# Altium footprint library CONN_HDR_1.00MM_ST.PcbLib: 1 footprints
Each footprint in its own frame and in the unit in brackets; x right, y up, seen from the top. Pads: shape width x height; smd on the part's side, far side on the other; paste and mask are expansions set on the pad; w line width, h text height; cw(c..) or ccw(c..) is an arc to the next point about the centre after c.
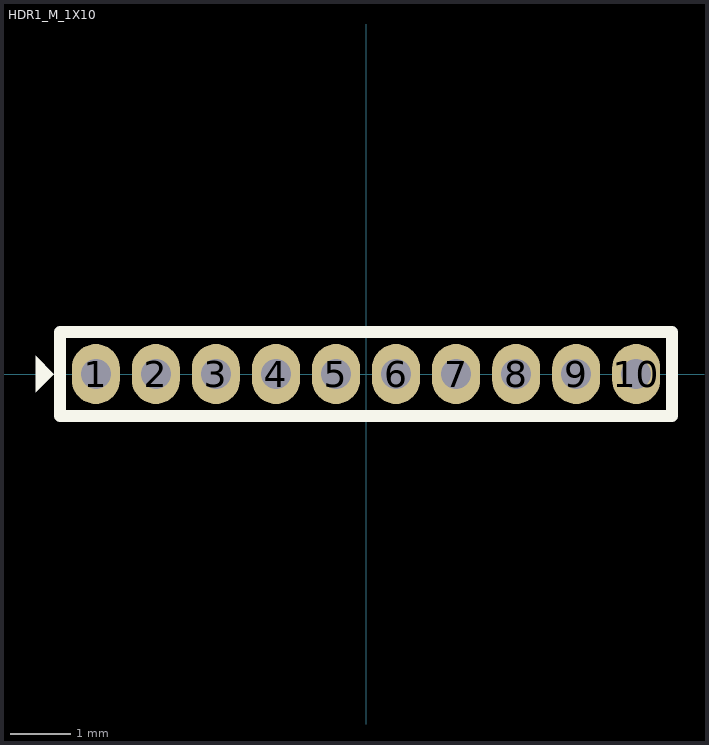
[diagram p0: the footprint, top view; thin cyan lines are the x and y axes]

## HDR1_M_1X10 [mm] "HEADER, 1mm, SMD"
pads (10):
  oval 0.8x1 hole 0.5 mask+0.05: 1(-4.5,0) 2(-3.5,0) 3(-2.5,0) 4(-1.5,0) 5(-0.5,0) 6(0.5,0) 7(1.5,0) 8(2.5,0) 9(3.5,0) 10(4.5,0)
Top Overlay:
  region: -5.2,0 -5.5,0.3 -5.5,-0.3
  lines w0.2: -5.1,-0.7 5.1,-0.7 5.1,0.7 -5.1,0.7 -5.1,-0.7
3D body "HDR1_M_1X10_ST.STEP": height 4, standoff -1.5, extent -5,-0.635 5,0.635